# Altium footprint library SHDR3W54P0X254_1X3_953X483X115.PcbLib: 1 footprints
Each footprint in its own frame and in the unit in brackets; x right, y up, seen from the top. Pads: shape width x height; smd on the part's side, far side on the other; paste and mask are expansions set on the pad; w line width, h text height; cw(c..) or ccw(c..) is an arc to the next point about the centre after c.
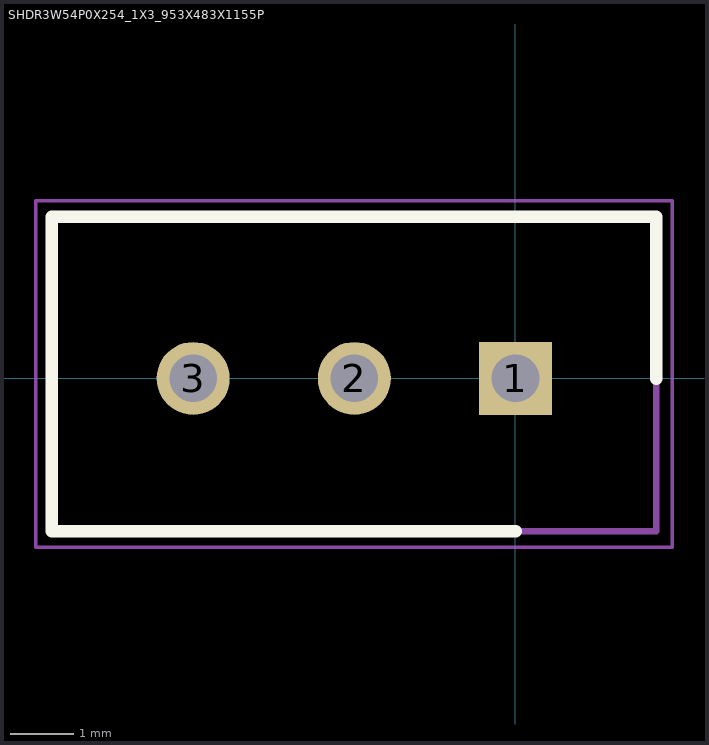
[diagram p0: the footprint, top view; thin cyan lines are the x and y axes]

## SHDR3W54P0X254_1X3_953X483X1155P [mm]
pads (3):
  rect 1.15x1.15 / inner round 1.15 / far side rect 1.15x1.15 hole 0.75: 1(0,0)
  round 1.15 hole 0.75: 2(-2.54,0) 3(-5.08,0)
L26-Silk Screen Top (Multiple PADS layers...):
  lines w0.2: 0,-2.41 -7.31,-2.41 -7.31,2.55 2.22,2.55 2.22,0
L15 (Multiple PADS layers...):
  lines w0.1: -7.31,-2.41 2.22,-2.41 2.22,2.55 -7.31,2.55 -7.31,-2.41
L20:
  lines w0.05: -7.56,-2.66 2.47,-2.66 2.47,2.8 -7.56,2.8 -7.56,-2.66